# Altium footprint library Package_DFN_QFN_SON.PcbLib: 78 footprints (part 5 of 5)
Each footprint in its own frame and in the unit in brackets; x right, y up, seen from the top. Pads: shape width x height; smd on the part's side, far side on the other; paste and mask are expansions set on the pad; w line width, h text height; cw(c..) or ccw(c..) is an arc to the next point about the centre after c.
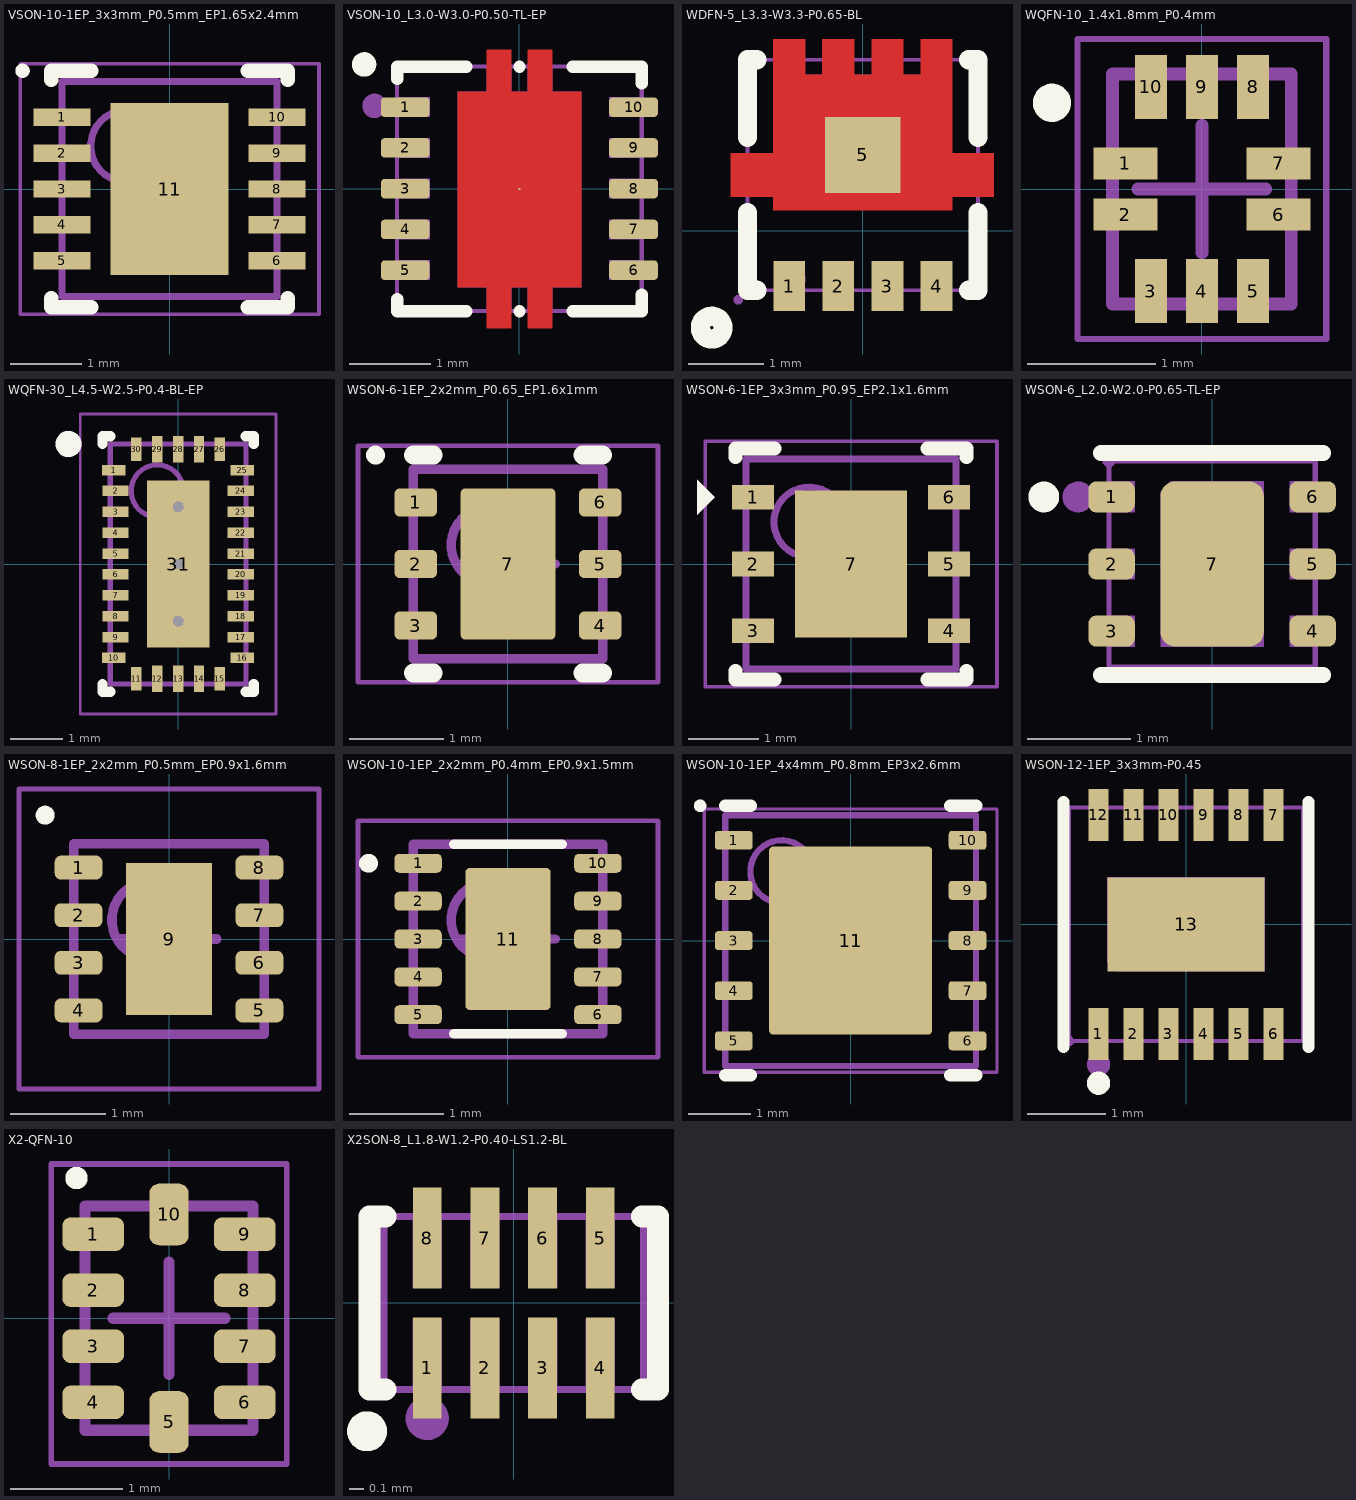
[diagram p4: the footprints below, top view; thin cyan lines are the x and y axes]

## VSON-10-1EP_3x3mm_P0.5mm_EP1.65x2.4mm [mm] "SON, 10-Leads, Body 3.00x3.00mm, Pitch 0.50mm, Thermal Pad 2.40x1.58mm, IPC Medium Density"
height 1
pads (11):
  rect 0.8x0.24 smd: 1(-1.5,1) 2(-1.5,0.5) 3(-1.5,0) 4(-1.5,-0.5) 5(-1.5,-1) 6(1.5,-1) 7(1.5,-0.5) 8(1.5,0) 9(1.5,0.5) 10(1.5,1)
  rect 1.65x2.4 smd: 11(0,0)
Top Overlay:
  circle w0.1: c-2.05,1.65 r0.05
  lines w0.2: -1.65,-1.525 -1.65,-1.65 -1.09,-1.65 ; -1.65,1.525 -1.65,1.65 -1.09,1.65 ; 1.09,-1.65 1.65,-1.65 1.65,-1.525 ; 1.09,1.65 1.65,1.65 1.65,1.525
Mechanical 13:
  circle w0.1: c-0.6,0.6 r0.5
  lines w0.1: -1.5,-1.5 -1.5,1.5 1.5,1.5 1.5,-1.5 -1.5,-1.5
Mechanical 15:
  lines w0.05: -2.085,-1.75 -2.085,1.75 2.085,1.75 2.085,-1.75 -2.085,-1.75
  lines w0.1: -0.5,0 0.5,0 ; 0,-0.5 0,0.5
3D body "SON50P300X100_HS-11N.step": height 1, standoff 0, extent -1.6,-1.5 1.6,1.5

## VSON-10_L3.0-W3.0-P0.50-TL-EP [mm]
pads (17):
  rrect40% 0.6x0.24 smd mask+0.07: 1(-1.4,1) 2(-1.4,0.5) 3(-1.4,0) 4(-1.4,-0.5) 5(-1.4,-1) 6(1.4,-1) 7(1.4,-0.5) 8(1.4,0) 9(1.4,0.5) 10(1.4,1)
  round 0.025 smd paste-2539.97 mask+0.07: 11(0.001,-0.004)
  rrect50% 0.25x0.34 on Top Paste: ""(-0.25,-1.53) ""(-0.25,1.53) ""(0.25,-1.53) ""(0.25,1.53)
  rrect5% 1.5x1.06 on Top Paste: ""(0,-0.63) ""(0,0.63)
Top Layer:
  region: -0.758,1.191 -0.398,1.191 -0.398,1.706 -0.098,1.706 -0.098,1.191 0.102,1.191 0.102,1.706 0.402,1.706 0.402,1.191 0.761,1.191 0.761,-1.209 0.402,-1.209 0.402,-1.714 0.102,-1.714 0.102,-1.209 -0.098,-1.209 -0.098,-1.714 -0.398,-1.714 -0.398,-1.209 -0.759,-1.209 -0.759,0.886
Top Overlay:
  circle w0.15: c-1.905,1.524 r0.075
  lines w0.15: -1.499,-1.353 -1.499,-1.504 -0.648,-1.504 ; -1.499,1.345 -1.499,1.496 -0.648,1.496 ; 0.001,-1.504 0.002,-1.504 ; 0.001,1.496 0.002,1.496 ; 0.651,-1.504 1.501,-1.504 1.501,-1.298 ; 0.651,1.496 1.501,1.496 1.501,1.29
Mechanical 6:
  circle w0.15: c-1.778,1.016 r0.075
Mechanical 15:
  region: -0.758,1.191 -0.398,1.191 -0.398,1.5 -0.098,1.5 -0.098,1.191 0.102,1.191 0.102,1.5 0.402,1.5 0.402,1.191 0.761,1.191 0.761,-1.209 0.402,-1.209 0.402,-1.5 0.102,-1.5 0.102,-1.209 -0.098,-1.209 -0.098,-1.5 -0.398,-1.5 -0.398,-1.209 -0.759,-1.209 -0.759,0.886 -0.758,0.886
  region: -1.1,-0.12 -1.5,-0.12 -1.5,0.12 -1.1,0.12
  region: 1.1,0.12 1.5,0.12 1.5,-0.12 1.1,-0.12
  region: -1.5,1.12 -1.1,1.12 -1.1,0.88 -1.5,0.88
  region: -1.5,0.62 -1.1,0.62 -1.1,0.38 -1.5,0.38
  region: -1.5,-0.38 -1.1,-0.38 -1.1,-0.62 -1.5,-0.62
  region: -1.5,-0.88 -1.1,-0.88 -1.1,-1.12 -1.5,-1.12
  region: 1.1,-0.88 1.5,-0.88 1.5,-1.12 1.1,-1.12
  region: 1.1,-0.38 1.5,-0.38 1.5,-0.62 1.1,-0.62
  region: 1.1,1.12 1.5,1.12 1.5,0.88 1.1,0.88
  region: 1.1,0.62 1.5,0.62 1.5,0.38 1.1,0.38
  region: -1.41,1.47 -1.41,1.495 -1.445,1.53 -1.495,1.53 -1.53,1.495 -1.53,1.47 -1.53,1.445 -1.495,1.41 -1.445,1.41 -1.41,1.445 -1.41,1.47
  lines w0.051: -1.5,-1.5 1.5,-1.5 1.5,1.5 -1.5,1.5 -1.5,-1.5
3D body "SON50P300X100_HS-11N.step": height 1, standoff 0, extent -1.599,-1.504 1.601,1.496

## WDFN-5_L3.3-W3.3-P0.65-BL [mm]
pads (5):
  rect 0.42x0.66 smd paste-100 mask+0.051: 1(-0.975,-0.735) 2(-0.325,-0.735) 3(0.325,-0.735) 4(0.975,-0.735)
  rect 1x1 smd: 5(0,1)
Top Layer:
  region: 1.185,0.45 1.185,0.27 -1.185,0.27 -1.185,0.45 -1.75,0.45 -1.75,1.02 -1.185,1.02 -1.185,2.535 -0.765,2.535 -0.765,2.065 -0.535,2.065 -0.535,2.535 -0.115,2.535 -0.115,2.065 0.115,2.065 0.115,2.535 0.535,2.535 0.535,2.065 0.765,2.065 0.765,2.535 1.185,2.535 1.185,1.02 1.73,1.02 1.73,0.45
Top Overlay:
  circle w0.254: c-2,-1.285 r0.15
  lines w0.254: -1.525,0.235 -1.525,-0.79 -1.4,-0.79 ; -1.525,1.235 -1.525,2.26 -1.4,2.26 ; 1.4,-0.79 1.525,-0.79 1.525,0.235 ; 1.4,2.26 1.525,2.26 1.525,1.235
Top Paste:
  region: 1.185,2.065 1.185,0.27 -1.185,0.27 -1.185,2.065
  region: -1.185,0.45 -1.73,0.45 -1.73,1.02 -1.185,1.02
  region: 1.185,1.02 1.73,1.02 1.73,0.45 1.185,0.45
  region: 1.185,-1.065 0.765,-1.065 0.765,-0.405 1.185,-0.405
  region: 0.535,-1.065 0.115,-1.065 0.115,-0.405 0.535,-0.405
  region: -0.115,-1.065 -0.535,-1.065 -0.535,-0.405 -0.115,-0.405
  region: -0.765,-1.065 -1.185,-1.065 -1.185,-0.405 -0.765,-0.405
  region: 1.185,1.875 0.765,1.875 0.765,2.535 1.185,2.535
  region: 0.535,1.875 0.115,1.875 0.115,2.535 0.535,2.535
  region: -0.115,1.875 -0.535,1.875 -0.535,2.535 -0.115,2.535
  region: -0.765,1.875 -1.185,1.875 -1.185,2.535 -0.765,2.535
Mechanical 6:
  circle w0.2: c-0.96,-0.645 r0.1
Mechanical 15:
  region: -1.125,-0.915 -1.125,-0.505 -0.825,-0.505 -0.825,-0.915
  region: -0.475,-0.915 -0.475,-0.505 -0.175,-0.505 -0.175,-0.915
  region: 0.175,-0.915 0.175,-0.505 0.475,-0.505 0.475,-0.915
  region: 0.825,-0.915 0.825,-0.505 1.125,-0.505 1.125,-0.915
  region: 1.125,2.385 1.125,2.065 0.825,2.065 0.825,2.385
  region: 0.475,2.385 0.475,2.065 0.175,2.065 0.175,2.385
  region: -0.175,2.385 -0.175,2.065 -0.475,2.065 -0.475,2.385
  region: -0.825,2.385 -0.825,2.065 -1.125,2.065 -1.125,2.385
  region: 1.65,0.885 1.055,0.885 1.055,0.585 1.65,0.585
  region: -1.055,0.885 -1.65,0.885 -1.65,0.585 -1.055,0.585
  region: -1.055,2.065 1.055,2.065 1.055,0.45 -1.055,0.45
  region: -1.59,-0.915 -1.59,-0.89 -1.625,-0.855 -1.675,-0.855 -1.71,-0.89 -1.71,-0.915 -1.71,-0.94 -1.675,-0.975 -1.625,-0.975 -1.59,-0.94 -1.59,-0.915
  lines w0.051: -1.525,-0.79 -1.525,2.26 1.525,2.26 1.525,-0.79 -1.525,-0.79
3D body "Q1.stp": height 0.76, standoff 0, extent -1.65,-0.915 1.65,2.385

## WQFN-10_1.4x1.8mm_P0.4mm [mm] "PQFN, 10-Leads, Body 1.40x1.80mm, Pitch 0.40mm, IPC Medium Density"
height 0.55
pads (10):
  rect 0.5x0.25 smd: 1(-0.6,0.2) 2(-0.6,-0.2) 6(0.6,-0.2) 7(0.6,0.2)
  rect 0.25x0.5 smd: 3(-0.4,-0.8) 4(0,-0.8) 5(0.4,-0.8) 8(0.4,0.8) 9(0,0.8) 10(-0.4,0.8)
Top Overlay:
  circle w0.2: c-1.175,0.675 r0.05
Mechanical 13:
  lines w0.1: -0.7,-0.9 0.7,-0.9 0.7,0.9 -0.7,0.9 -0.7,-0.9
Mechanical 15:
  lines w0.05: -0.975,-1.175 0.975,-1.175 0.975,1.175 -0.975,1.175 -0.975,-1.175
  lines w0.1: -0.5,0 0.5,0 ; 0,-0.5 0,0.5
3D body "PQFN40P140X180X55-10N.step": height 0.55, standoff 0, extent -0.7,-0.9 0.7,0.9

## WQFN-30_L4.5-W2.5-P0.4-BL-EP [mm]
height 0.8
pads (31):
  rect 0.45x0.2 smd: 1(-1.23,1.8) 10(-1.23,-1.8) 16(1.225,-1.8) 25(1.225,1.8)
  rect 0.5x0.2 smd: 2(-1.2,1.4) 3(-1.2,1) 4(-1.2,0.6) 5(-1.2,0.2) 6(-1.2,-0.2) 7(-1.2,-0.6) 8(-1.2,-1) 9(-1.2,-1.4) 17(1.2,-1.4) 18(1.2,-1) 19(1.2,-0.6) 20(1.2,-0.2) 21(1.2,0.2) 22(1.2,0.6) 23(1.2,1) 24(1.2,1.4)
  rect 0.2x0.45 smd: 11(-0.8,-2.2) 15(0.8,-2.2) 26(0.8,2.2) 30(-0.8,2.2)
  rect 0.2x0.5 smd: 12(-0.4,-2.2) 13(0,-2.2) 14(0.4,-2.2) 27(0.4,2.2) 28(0,2.2) 29(-0.4,2.2)
  rect 1.2x3.2 smd: 31(0,0)
via 0,-1.1 diameter 0.5 hole 0.2
via 0,0 diameter 0.5 hole 0.2
via 0,1.1 diameter 0.5 hole 0.2
Top Overlay:
  circle w0.25: c-2.1,2.3 r0.125
  lines w0.2: -1.45,-2.3 -1.45,-2.45 -1.3,-2.45 ; -1.45,2.3 -1.45,2.45 -1.3,2.45 ; 1.3,-2.45 1.45,-2.45 1.45,-2.3 ; 1.3,2.45 1.45,2.45 1.45,2.3
Mechanical 13:
  circle w0.1: c-0.4,1.4 r0.5
  lines w0.1: -1.3,-2.3 1.3,-2.3 1.3,2.3 -1.3,2.3 -1.3,-2.3
Mechanical 15:
  lines w0.05: -1.875,-2.875 1.875,-2.875 1.875,2.875 -1.875,2.875 -1.875,-2.875
  lines w0.1: -0.5,0 0.5,0 ; 0,-0.5 0,0.5
3D body: height 0.8, standoff 0.05, extent -1.3,-2.3 1.3,2.3

## WSON-6-1EP_2x2mm_P0.65_EP1.6x1mm [mm] "SON, 6-Leads, Body 2.00x2.00mm, Pitch 0.65mm, Thermal Pad 1.60x0.98mm, IPC Medium Density"
height 0.8
pads (7):
  rrect40% 0.45x0.3 smd mask+0.07: 1(-0.975,0.65) 2(-0.975,0) 3(-0.975,-0.65) 4(0.975,-0.65) 5(0.975,0) 6(0.975,0.65)
  rrect10% 1x1.6 smd paste-1 mask+0.07: 7(0,0)
Top Overlay:
  circle w0.1: c-1.4,1.15 r0.05
  lines w0.2: -1,-1.15 -0.79,-1.15 ; -1,1.15 -0.79,1.15 ; 0.79,-1.15 1,-1.15 ; 0.79,1.15 1,1.15
Top Paste:
  region: -0.5,-0.15 -0.5,-0.75 -0.5,-0.76 -0.492,-0.778 -0.478,-0.792 -0.46,-0.8 -0.45,-0.8 0.45,-0.8 0.46,-0.8 0.478,-0.792 0.492,-0.778 0.5,-0.76 0.5,-0.75 0.5,-0.15 0.5,-0.14 0.492,-0.122 0.478,-0.108 0.46,-0.1 0.45,-0.1 -0.45,-0.1 -0.46,-0.1 -0.478,-0.108 -0.492,-0.122 -0.5,-0.14
  region: -0.5,0.15 -0.5,0.75 -0.5,0.76 -0.492,0.778 -0.478,0.792 -0.46,0.8 -0.45,0.8 0.45,0.8 0.46,0.8 0.478,0.792 0.492,0.778 0.5,0.76 0.5,0.75 0.5,0.15 0.5,0.14 0.492,0.122 0.478,0.108 0.46,0.1 0.45,0.1 -0.45,0.1 -0.46,0.1 -0.478,0.108 -0.492,0.122 -0.5,0.14
Mechanical 13:
  circle w0.1: c-0.2,0.2 r0.4
  lines w0.1: -1,-1 -1,1 1,1 1,-1 -1,-1
Mechanical 15:
  lines w0.05: -1.585,-1.25 -1.585,1.25 1.585,1.25 1.585,-1.25 -1.585,-1.25
  lines w0.1: -0.5,0 0.5,0 ; 0,-0.5 0,0.5
3D body "SON65P200X80_HS-7N.step": height 0.8, standoff 0, extent -1.01,-1 1.01,1

## WSON-6-1EP_3x3mm_P0.95_EP2.1x1.6mm [mm] "SON, 6-Leads, Body 3.00x3.00mm, Pitch 0.95mm, Thermal Pad 2.10x1.58mm, IPC Medium Density"
height 0.8
pads (7):
  rect 0.6x0.35 smd mask+0.07: 1(-1.4,0.95) 2(-1.4,0) 3(-1.4,-0.95) 4(1.4,-0.95) 5(1.4,0) 6(1.4,0.95)
  rect 1.6x2.1 smd mask+0.07: 7(0,0)
Top Overlay:
  region: -1.95,0.95 -2.2,1.2 -2.2,0.7
  lines w0.2: -1.65,-1.525 -1.65,-1.65 -1.09,-1.65 ; -1.65,1.525 -1.65,1.65 -1.09,1.65 ; 1.09,-1.65 1.65,-1.65 1.65,-1.525 ; 1.09,1.65 1.65,1.65 1.65,1.525
Mechanical 13:
  circle w0.1: c-0.6,0.6 r0.5
  lines w0.1: -1.5,-1.5 -1.5,1.5 1.5,1.5 1.5,-1.5 -1.5,-1.5
Mechanical 15:
  lines w0.05: -2.085,-1.75 -2.085,1.75 2.085,1.75 2.085,-1.75 -2.085,-1.75
  lines w0.1: -0.5,0 0.5,0 ; 0,-0.5 0,0.5
3D body "SON95P300X80_HS-7N.step": height 0.8, standoff 0, extent -1.51,-1.5 1.51,1.5

## WSON-6_L2.0-W2.0-P0.65-TL-EP [mm]
pads (9):
  rrect50% 0.45x0.3 smd paste+0 mask+0.07: 1(-0.975,0.65) 2(-0.975,0) 3(-0.975,-0.65) 4(0.975,-0.65) 5(0.975,0) 6(0.975,0.65)
  rrect28% 1x1.6 smd paste-2539.97 mask+0.07: 7(0,0)
  rrect40% 1x0.7 on Top Paste: ""(0,-0.45) ""(0,0.45)
Top Overlay:
  circle w0.15: c-1.632,0.65 r0.075
  lines w0.152: -1.076,-1.076 1.076,-1.076 ; -1.076,1.076 1.076,1.076
Mechanical 6:
  circle w0.15: c-1.3,0.65 r0.075
Mechanical 15:
  region: -0.4,0.8 0.5,0.8 0.5,-0.8 -0.5,-0.8 -0.5,0.7
  region: 1,0.8 0.75,0.8 0.75,0.5 1,0.5
  region: 1,0.15 0.75,0.15 0.75,-0.15 1,-0.15
  region: 1,-0.5 0.75,-0.5 0.75,-0.8 1,-0.8
  region: -1,-0.5 -0.75,-0.5 -0.75,-0.8 -1,-0.8
  region: -1,0.15 -0.75,0.15 -0.75,-0.15 -1,-0.15
  region: -1,0.8 -0.75,0.8 -0.75,0.5 -1,0.5
  region: -0.94,1 -0.94,1.025 -0.975,1.06 -1.025,1.06 -1.06,1.025 -1.06,1 -1.06,0.975 -1.025,0.94 -0.975,0.94 -0.94,0.975 -0.94,1
  lines w0.051: -1,-1 -1,1 1,1 1,-1 -1,-1
3D body "SON65P200X80_HS-7N.step": height 0.8, standoff 0, extent -1.01,-1 1.01,1

## WSON-8-1EP_2x2mm_P0.5mm_EP0.9x1.6mm [mm] "QFN, 8-Leads, Body 2.00x2.00mm, Pitch 0.50mm, Thermal Pad 0.90x1.60mm, IPC Medium Density"
height 0.8
pads (9):
  rrect50% 0.5x0.25 smd: 1(-0.95,0.75) 2(-0.95,0.25) 3(-0.95,-0.25) 4(-0.95,-0.75) 5(0.95,-0.75) 6(0.95,-0.25) 7(0.95,0.25) 8(0.95,0.75)
  rect 0.9x1.6 smd: 9(0,0)
Top Overlay:
  circle w0.1: c-1.3,1.3 r0.05
Mechanical 13:
  circle w0.1: c-0.2,0.2 r0.4
  lines w0.1: -1,-1 -1,1 1,1 1,-1 -1,-1
Mechanical 15:
  lines w0.05: -1.575,-1.575 -1.575,1.575 1.575,1.575 1.575,-1.575 -1.575,-1.575
  lines w0.1: -0.5,0 0.5,0 ; 0,-0.5 0,0.5
3D body "QFN50P200X200X80_HS-9N.step": height 0.8, standoff 0, extent -1.05,-1 1.05,1

## WSON-10-1EP_2x2mm_P0.4mm_EP0.9x1.5mm [mm] "SON, 10-Leads, Body 2.00x2.00mm, Pitch 0.40mm, Thermal Pad 1.50x0.78mm, IPC Medium Density"
height 0.75
pads (11):
  rrect50% 0.5x0.2 smd: 1(-0.95,0.8) 2(-0.95,0.4) 3(-0.95,0) 4(-0.95,-0.4) 5(-0.95,-0.8) 6(0.95,-0.8) 7(0.95,-0.4) 8(0.95,0) 9(0.95,0.4) 10(0.95,0.8)
  rrect10% 0.9x1.5 smd: 11(0,0)
Top Overlay:
  circle w0.1: c-1.475,0.8 r0.05
  lines w0.1: -0.575,-1 0.575,-1 ; -0.575,1 0.575,1
Mechanical 13:
  circle w0.1: c-0.2,0.2 r0.4
  lines w0.1: -1,-1 1,-1 1,1 -1,1 -1,-1
Mechanical 15:
  lines w0.05: -1.585,-1.25 1.585,-1.25 1.585,1.25 -1.585,1.25 -1.585,-1.25
  lines w0.1: -0.5,0 0.5,0 ; 0,-0.5 0,0.5
3D body "SON40P200X75_HS-11N.step": height 0.75, standoff 0, extent -1.05,-1 1.05,1

## WSON-10-1EP_4x4mm_P0.8mm_EP3x2.6mm [mm] "SON, 10-Leads, Body 4.00x4.00mm, Pitch 0.80mm, Thermal Pad 3.20x2.58mm, IPC High Density"
height 0.7
pads (11):
  rrect33% 0.6x0.3 smd: 1(-1.865,1.6) 2(-1.865,0.8) 3(-1.865,0) 4(-1.865,-0.8) 5(-1.865,-1.6) 6(1.865,-1.6) 7(1.865,-0.8) 8(1.865,0) 9(1.865,0.8) 10(1.865,1.6)
  rrect5% 2.6x3 smd paste-1.29: 11(0,0)
Top Overlay:
  circle w0.1: c-2.4,2.15 r0.05
  lines w0.2: -2,-2.15 -1.59,-2.15 ; -2,2.15 -1.59,2.15 ; 1.59,-2.15 2,-2.15 ; 1.59,2.15 2,2.15
Top Paste:
  rectangle: 0.1,-1.5 1.19,-0.1
  rectangle: 0.1,0.1 1.19,1.5
  rectangle: -1.19,-1.5 -0.1,-0.1
  rectangle: -1.19,0.1 -0.1,1.5
Mechanical 13:
  circle w0.1: c-1.1,1.1 r0.5
  lines w0.1: -2,-2 2,-2 2,2 -2,2 -2,-2
Mechanical 15:
  lines w0.05: -2.335,-2.1 2.335,-2.1 2.335,2.1 -2.335,2.1 -2.335,-2.1
  lines w0.1: -0.5,0 0.5,0 ; 0,-0.5 0,0.5
3D body "SON80P400X70_HS-11L.step": height 0.7, standoff 0, extent -2,-2 2,2

## WSON-12-1EP_3x3mm-P0.45 [mm]
pads (13):
  rect 0.252x0.665 smd paste+0 mask+0.051: 1(-1.125,-1.407) 2(-0.675,-1.407) 3(-0.225,-1.407) 4(0.225,-1.407) 5(0.675,-1.407) 6(1.125,-1.407) 7(1.125,1.407) 8(0.675,1.407) 9(0.225,1.407) 10(-0.225,1.407) 11(-0.675,1.407) 12(-1.125,1.407)
  rect 2.02x1.21 smd paste+0 mask+0.051: 13(0,0)
Top Overlay:
  circle w0.15: c-1.125,-2.04 r0.075
  lines w0.152: -1.576,-1.576 -1.576,1.576 ; 1.576,-1.576 1.576,1.576
Mechanical 6:
  circle w0.15: c-1.125,-1.8 r0.075
Mechanical 15:
  region: -1.44,-1.5 -1.44,-1.475 -1.475,-1.44 -1.525,-1.44 -1.56,-1.475 -1.56,-1.5 -1.56,-1.525 -1.525,-1.56 -1.475,-1.56 -1.44,-1.525 -1.44,-1.5
  region: -1.225,-1.5 -1.225,-1.1 -1.025,-1.1 -1.025,-1.5
  region: -0.775,-1.5 -0.775,-1.1 -0.575,-1.1 -0.575,-1.5
  region: -0.325,-1.5 -0.325,-1.1 -0.125,-1.1 -0.125,-1.5
  region: 0.125,-1.5 0.125,-1.1 0.325,-1.1 0.325,-1.5
  region: 0.575,-1.5 0.575,-1.1 0.775,-1.1 0.775,-1.5
  region: 1.025,-1.5 1.025,-1.1 1.225,-1.1 1.225,-1.5
  region: 1.025,1.5 1.025,1.1 1.225,1.1 1.225,1.5
  region: 0.575,1.5 0.575,1.1 0.775,1.1 0.775,1.5
  region: 0.125,1.5 0.125,1.1 0.325,1.1 0.325,1.5
  region: -0.325,1.5 -0.325,1.1 -0.125,1.1 -0.125,1.5
  region: -0.775,1.5 -0.775,1.1 -0.575,1.1 -0.575,1.5
  region: -1.225,1.5 -1.225,1.1 -1.025,1.1 -1.025,1.5
  region: -1.01,-0.484 -1.01,0.605 1.01,0.605 1.01,-0.605 -0.889,-0.605
  lines w0.051: -1.5,-1.5 -1.5,1.5 1.5,1.5 1.5,-1.5 -1.5,-1.5
3D body "U1.stp": height 0.8, standoff 0, extent -1.51,-1.51 1.51,1.51

## X2-QFN-10 [mm] "QFN, 10-Leads, Body 1.50x2.00mm, Pitch 0.50mm, IPC Medium Density"
height 0.4
pads (10):
  rrect50% 0.55x0.3 smd paste-0.025 mask+0.05: 1(-0.675,0.75) 2(-0.675,0.25) 3(-0.675,-0.25) 4(-0.675,-0.75) 6(0.675,-0.75) 7(0.675,-0.25) 8(0.675,0.25) 9(0.675,0.75)
  rrect50% 0.35x0.55 smd paste-0.025 mask+0.05: 5(0,-0.925) 10(0,0.925)
Top Overlay:
  circle w0.1: c-0.825,1.25 r0.05
Mechanical 13:
  lines w0.1: -0.75,-1 -0.75,1 0.75,1 0.75,-1 -0.75,-1
Mechanical 15:
  lines w0.05: -1.05,-1.3 1.05,-1.3 1.05,1.375 -1.05,1.375 -1.05,-1.3
  lines w0.1: -0.5,0 0.5,0 ; 0,-0.5 0,0.5
3D body "QFN50P150X200X40-10N.step": height 0.4, standoff 0.01, extent -0.75,-1 0.75,1

## X2SON-8_L1.8-W1.2-P0.40-LS1.2-BL [mm]
pads (8):
  rect 0.2x0.7 smd paste+0 mask+0.051: 1(-0.6,-0.45) 2(-0.2,-0.45) 3(0.2,-0.45) 4(0.6,-0.45) 5(0.6,0.45) 6(0.2,0.45) 7(-0.2,0.45) 8(-0.6,0.45)
Top Overlay:
  circle w0.15: c-1.016,-0.889 r0.064
  lines w0.15: -0.889,-0.6 -1,-0.6 -1,0.6 -0.889,0.6 ; 0.889,-0.6 1,-0.6 1,0.6 0.889,0.6
Mechanical 6:
  circle w0.15: c-0.6,-0.8 r0.075
Mechanical 15:
  region: -0.84,-0.608 -0.84,-0.583 -0.875,-0.548 -0.925,-0.548 -0.96,-0.583 -0.96,-0.608 -0.96,-0.633 -0.925,-0.668 -0.875,-0.668 -0.84,-0.633 -0.84,-0.608
  region: -0.7,0.609 -0.5,0.609 -0.5,0.109 -0.7,0.109
  region: -0.3,0.609 -0.1,0.609 -0.1,0.109 -0.3,0.109
  region: 0.1,0.609 0.3,0.609 0.3,0.109 0.1,0.109
  region: 0.5,0.609 0.7,0.609 0.7,0.109 0.5,0.109
  region: 0.5,-0.109 0.7,-0.109 0.7,-0.609 0.5,-0.609
  region: 0.1,-0.109 0.3,-0.109 0.3,-0.609 0.1,-0.609
  region: -0.3,-0.109 -0.1,-0.109 -0.1,-0.609 -0.3,-0.609
  region: -0.7,-0.109 -0.5,-0.109 -0.5,-0.609 -0.7,-0.609
  lines w0.051: -0.9,-0.6 -0.9,0.6 0.9,0.6 0.9,-0.6 -0.9,-0.6
3D body "U1.stp": height 0.4, standoff 0, extent -0.9,-0.61 0.9,0.61